# Altium footprint library LED_WP7113ID.PcbLib: 1 footprints
Each footprint in its own frame and in the unit in brackets; x right, y up, seen from the top. Pads: shape width x height; smd on the part's side, far side on the other; paste and mask are expansions set on the pad; w line width, h text height; cw(c..) or ccw(c..) is an arc to the next point about the centre after c.
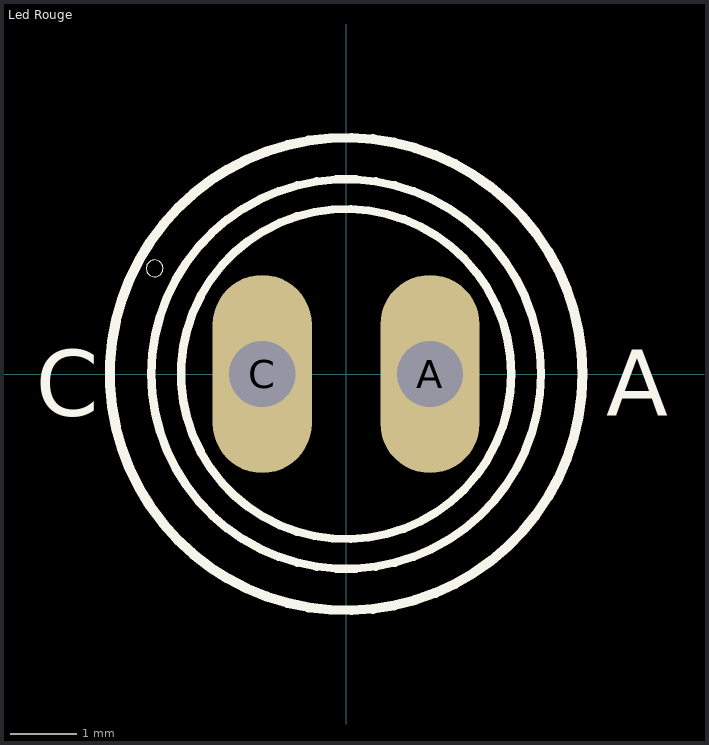
[diagram p0: the footprint, top view; thin cyan lines are the x and y axes]

## Led Rouge [mm]
pads (2):
  oval 1.5x3 hole 1: A(1.27,0) C(-1.27,0)
Top Overlay:
  circle w0.15: c0,0 r3.579
  circle w0: c-2.9,1.6 r0.127
  circle w0.127: c0,0 r2.5
  circle w0.127: c0,0 r2.95
  text "A" at 3.937,-0.635 h1
  text "C" at -4.699,-0.635 h1
3D body "step_temp.STEP": height 9.6, standoff -26, extent -2.5,-2.95 2.95,2.95